# Altium footprint library connectors.PcbLib: 4 footprints
Each footprint in its own frame and in the unit in brackets; x right, y up, seen from the top. Pads: shape width x height; smd on the part's side, far side on the other; paste and mask are expansions set on the pad; w line width, h text height; cw(c..) or ccw(c..) is an arc to the next point about the centre after c.
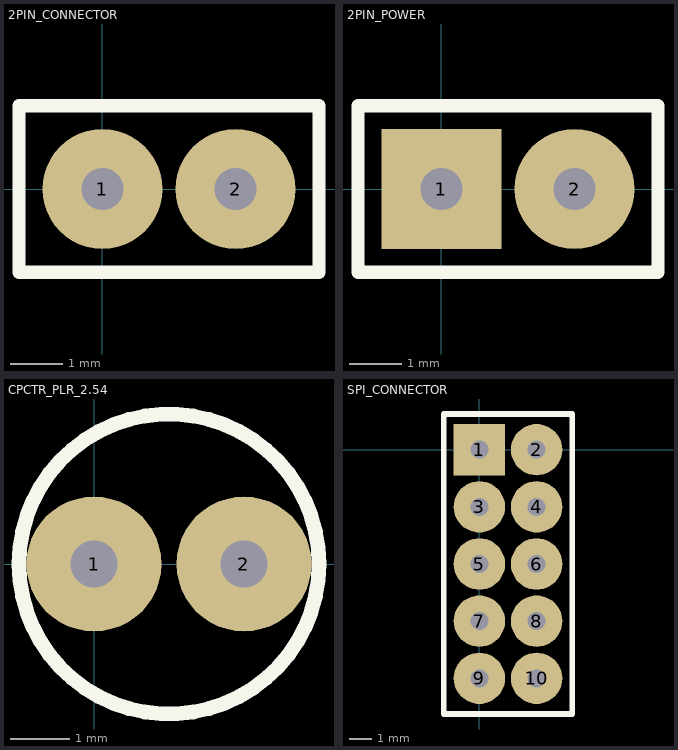
[diagram p0: the footprints below, top view; thin cyan lines are the x and y axes]

## 2PIN_CONNECTOR [mil]
pads (2):
  round 90 hole 31.5: 1(0,0) 2(100,0)
Top Overlay:
  lines w10: -62.5,-62.5 162.5,-62.5 162.5,62.5 -62.5,62.5 -62.5,-62.5

## 2PIN_POWER [mil]
pads (2):
  rect 90x90 hole 31.5: 1(0,0)
  round 90 hole 31.5: 2(100,0)
Top Overlay:
  lines w10: -62.5,-62.5 162.5,-62.5 162.5,62.5 -62.5,62.5 -62.5,-62.5

## CPCTR_PLR_2.54 [mil]
pads (2):
  round 90 hole 31.5: 1(0,0) 2(100,0)
Top Overlay:
  lines w9.8: -50,0 ccw(c50,0) 150,0 ccw(c50,0) -50,0

## SPI_CONNECTOR [mil]
pads (10):
  rect 90x90 hole 31.5: 1(0,0)
  round 90 hole 31.5: 2(100,0) 3(0,-100) 4(100,-100) 5(0,-200) 6(100,-200) 7(0,-300) 8(100,-300) 9(0,-400) 10(100,-400)
Top Overlay:
  lines w10: -62.5,-462.5 162.5,-462.5 162.5,62.5 -62.5,62.5 -62.5,-462.5